# Altium footprint library DIODE.PCBLIB: 42 footprints (part 3 of 3)
Each footprint in its own frame and in the unit in brackets; x right, y up, seen from the top. Pads: shape width x height; smd on the part's side, far side on the other; paste and mask are expansions set on the pad; w line width, h text height; cw(c..) or ccw(c..) is an arc to the next point about the centre after c.
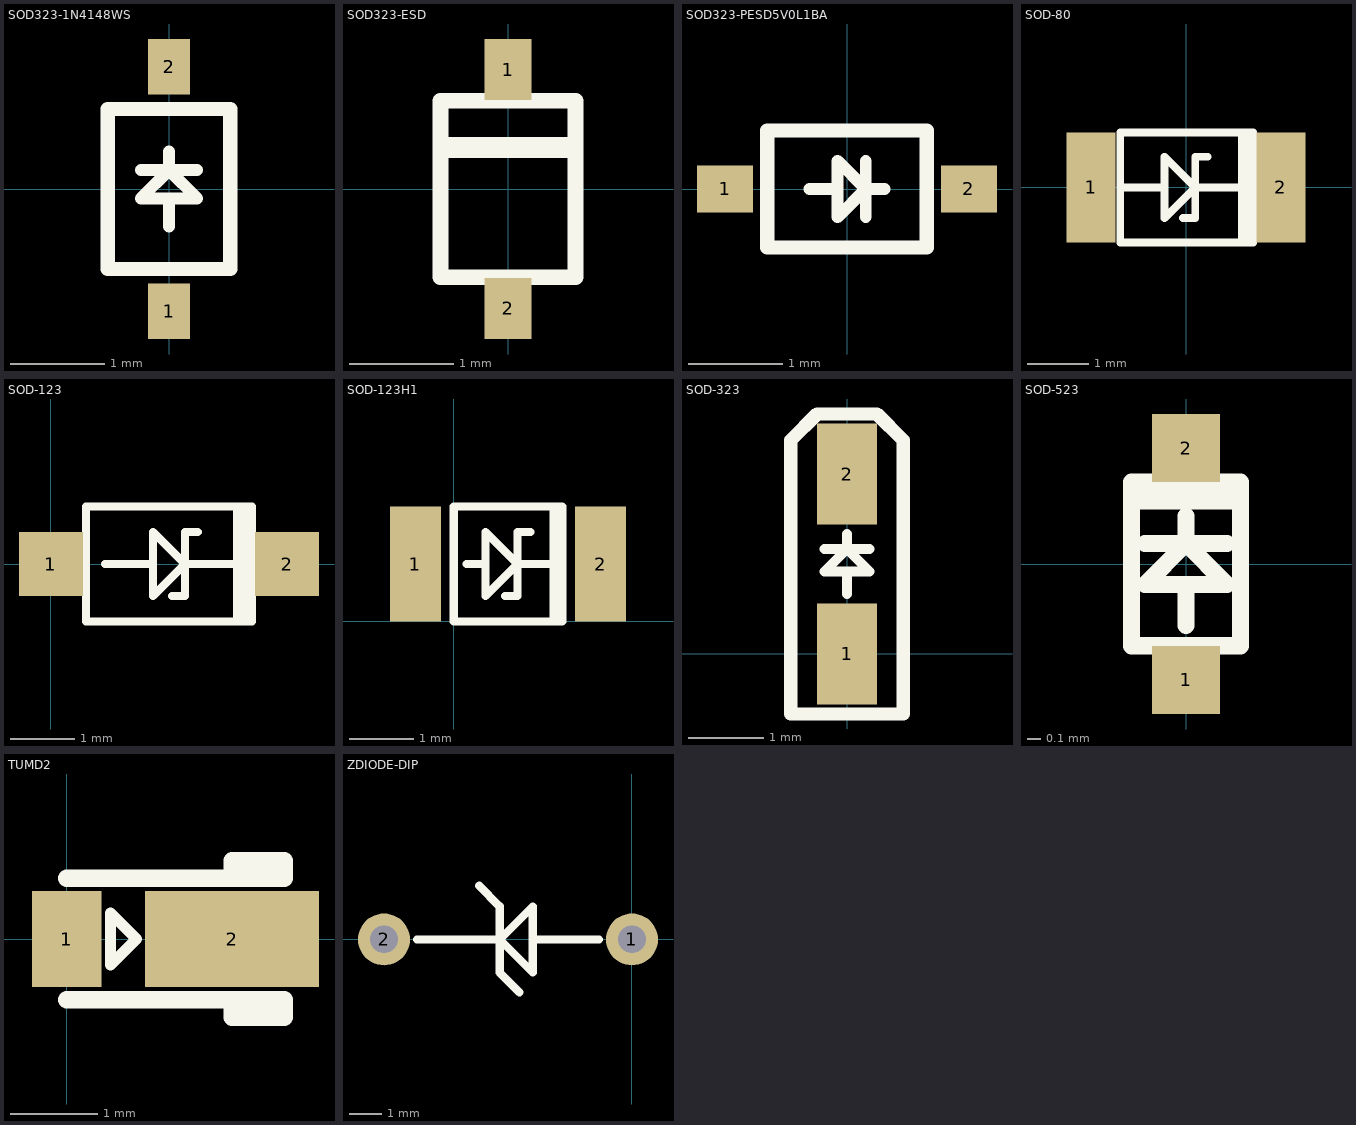
[diagram p2: the footprints below, top view; thin cyan lines are the x and y axes]

## SOD323-1N4148WS [mm] "SOD323-1N4148WS"
pads (2):
  rect 0.45x0.59 smd: 1(0,-1.3) 2(0,1.3)
TopOverlay:
  lines w0.127: -0.3,0.2 0.3,0.2 ; 0,-0.4 0,-0.1 ; 0,0.4 0,0.2 ; 0,0.2 0.3,-0.1 -0.3,-0.1 0,0.2
  lines w0.152: -0.65,-0.85 0.65,-0.85 0.65,0.85 -0.65,0.85 -0.65,-0.85

## SOD323-ESD [mm] "SOD323-ESD"
pads (2):
  rect 0.45x0.59 smd: 1(0,1.15) 2(0,-1.15)
TopOverlay:
  lines w0.152: -0.65,-0.85 -0.65,0.85 0.65,0.85 0.65,-0.85 -0.65,-0.85
  lines w0.2: -0.6,0.4 0.6,0.4

## SOD323-PESD5V0L1BA [mm] "SOD323-PESD5V0L1BA"
pads (2):
  rect 0.6x0.5 smd: 1(-1.3,0) 2(1.3,0)
TopOverlay:
  lines w0.127: -0.4,0 -0.1,0 ; 0.2,-0.3 0.2,0.3 ; 0.4,0 0.2,0 ; 0.2,0 -0.1,0.3 -0.1,-0.3 0.2,0
  lines w0.152: -0.85,-0.625 -0.85,0.625 0.85,0.625 0.85,-0.625 -0.85,-0.625

## SOD-80 [mm] "SOD-80"
pads (2):
  rect 0.8x1.8 smd: 1(-1.55,0) 2(1.55,0)
TopOverlay:
  rectangle: 0.85,-0.95 1.05,0.85
  lines w0.127: -1,0 -0.35,0 ; -0.05,-0.5 0.15,-0.5 0.15,0.5 0.35,0.5 ; 0.85,0 0.15,0 ; 0.15,0 -0.35,-0.5 -0.35,0.5 0.15,0 ; -1.075,-0.9 -1.075,0.9 1.1,0.9 1.1,-0.9 -1.075,-0.9

## SOD-123 [mm]
pads (2):
  rect 1x1 smd: 1(0,0) 2(3.7,0)
TopOverlay:
  rectangle: 2.85,-0.9 3.15,0.9
  lines w0.127: 0.85,0 1.6,0 ; 1.9,-0.5 2.1,-0.5 2.1,0.5 2.3,0.5 ; 2.85,0 2.1,0 ; 2.1,0 1.6,-0.5 1.6,0.5 2.1,0 ; 0.55,-0.9 0.55,0.9 3.15,0.9 3.15,-0.9 0.55,-0.9

## SOD-123H1 [mm] "SOD-123H1"
pads (2):
  rect 0.8x1.8 smd: 1(-0.6,0.9) 2(2.3,0.9)
TopOverlay:
  rectangle: 1.5,0 1.7,1.8
  lines w0.127: 0.2,0.9 0.5,0.9 ; 0.8,0.4 1,0.4 1,1.4 1.2,1.4 ; 1.7,0.9 1,0.9 ; 1,0.9 0.5,0.4 0.5,1.4 1,0.9 ; 0,0 0,1.8 1.7,1.8 1.7,0 0,0

## SOD-323 [mm]
pads (2):
  rect 0.8x1.35 smd: 1(0,0) 2(0,2.4)
TopOverlay:
  lines w0.127: -0.3,1.4 0.3,1.4 ; 0,0.8 0,1.1 ; 0,1.6 0,1.4 ; 0,1.4 0.3,1.1 -0.3,1.1 0,1.4
  lines w0.18: -0.75,-0.8 -0.75,2.85 -0.4,3.2 0.4,3.2 0.75,2.85 0.75,-0.8 -0.75,-0.8

## SOD-523 [mm]
pads (2):
  rect 0.5x0.5 smd: 1(0,-0.85) 2(0,0.85)
TopOverlay:
  rectangle: -0.4,0.4 0.4,0.6
  lines w0.127: -0.3,0.15 0.3,0.15 ; 0,-0.45 0,-0.15 ; 0,0.35 0,0.15 ; 0,0.15 -0.3,-0.15 0.3,-0.15 0,0.15 ; -0.4,-0.6 0.4,-0.6 0.4,0.6 -0.4,0.6 -0.4,-0.6

## TUMD2 [mm]
pads (2):
  rect 0.8x1.1 smd: 1(0,0)
  rect 2x1.1 smd: 2(1.9,0)
TopOverlay:
  lines w0.127: 0.5,-0.3 0.8,0 0.5,0.3 0.5,-0.3
  lines w0.2: 0,-0.7 2.5,-0.7 2.5,-0.9 1.9,-0.9 1.9,-0.7 ; 0,0.7 2.5,0.7 2.5,0.9 1.9,0.9 1.9,0.7

## ZDIODE-DIP [mm]
pads (2):
  round 1.6 hole 0.85: 1(0,0) 2(-7.62,0)
TopOverlay:
  lines w0.25: -6.604,0 -4.572,0 -4.064,0 ; -4.064,-1.016 -4.064,1.016 -4.064,0 ; -3.048,0 -1.016,0 ; -4.064,0 -3.048,-1.016 -3.048,1.016 -4.064,0
  lines w0.254: -4.697,1.649 -4.064,1.016 ; -4.064,-1.016 -3.456,-1.624